# Altium integrated library CustomComponentsLibrary.IntLib: 15 symbols
Pins are listed as number, name and electrical type; pins without a type are passive.

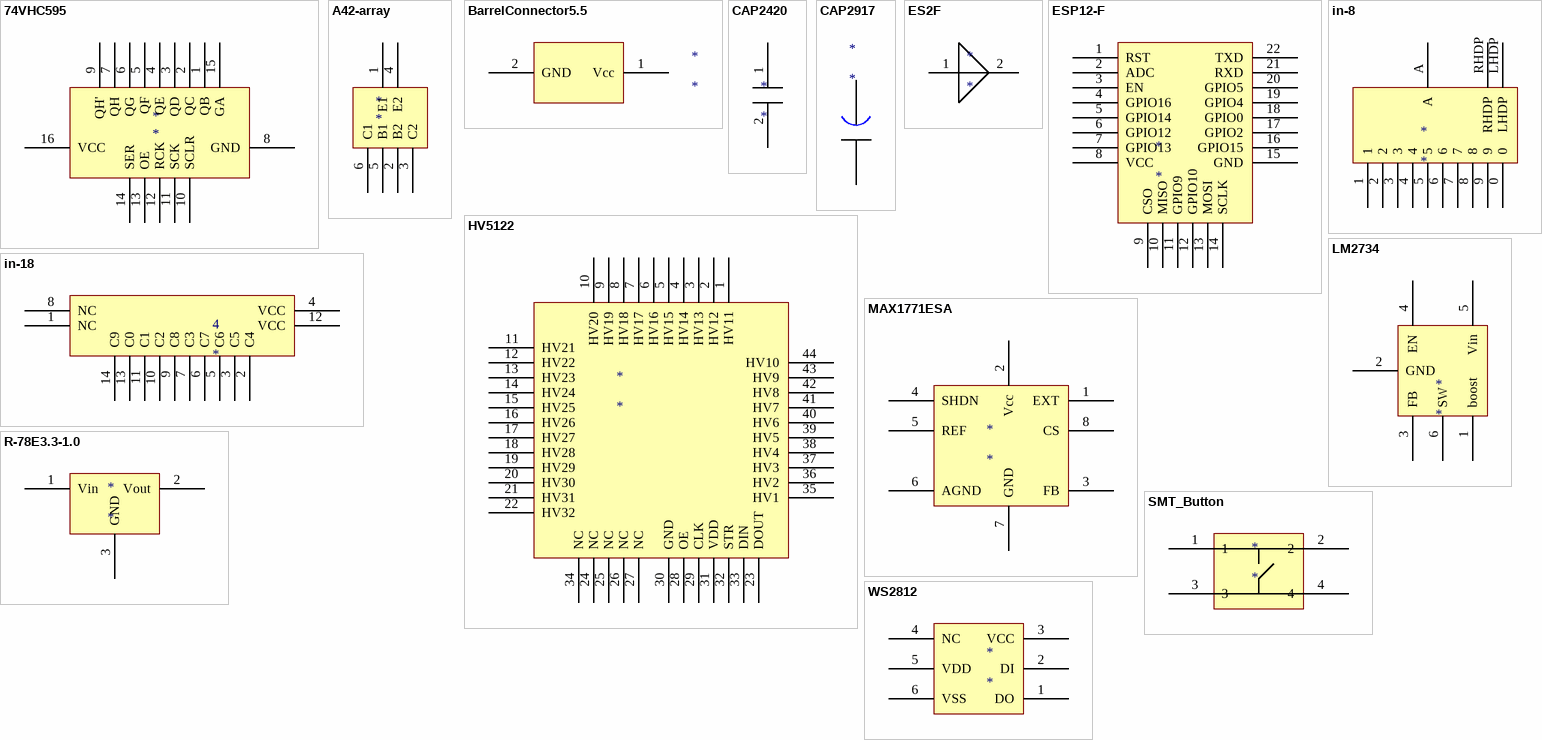
[diagram p0: symbols 74VHC595 to WS2812]

## 74VHC595
designator *
footprint 74VHC595
pins: 1 QB, 2 QC, 3 QD, 4 QE, 5 QF, 6 QG, 7 QH, 8 GND, 9 QH', 10 SCLR, 11 SCK, 12 RCK, 13 OE, 14 SER, 15 GA, 16 VCC

## A42-array
designator *
footprint SOT457
pins: 1 E1, 2 B2, 3 C2, 4 E2, 5 B1, 6 C1

## BarrelConnector5.5
designator *
footprint BarrelConnector5.5
pins: 1 Vcc, 2 GND

## CAP2420
designator *
footprint Cap2420
pins: 1, 2

## CAP2917
designator *
footprint Diode2917
pins: 1, 2

## ES2F
designator *
footprint DO-214AA
pins: 1, 2

## ESP12-F
designator *
footprint ESP12-F
pins: 1 RST, 2 ADC, 3 EN, 4 GPIO16, 5 GPIO14, 6 GPIO12, 7 GPIO13, 8 VCC, 9 CSO, 10 MISO, 11 GPIO9, 12 GPIO10, 13 MOSI, 14 SCLK, 15 GND, 16 GPIO15, 17 GPIO2, 18 GPIO0, 19 GPIO4, 20 GPIO5, 21 RXD, 22 TXD

## HV5122
designator *
footprint 44PQFP
pins: 1 HV11, 2 HV12, 3 HV13, 4 HV14, 5 HV15, 6 HV16, 7 HV17, 8 HV18, 9 HV19, 10 HV20, 11 HV21, 12 HV22, 13 HV23, 14 HV24, 15 HV25, 16 HV26, 17 HV27, 18 HV28, 19 HV29, 20 HV30, 21 HV31, 22 HV32, 23 DOUT, 24 NC, 25 NC, 26 NC, 27 NC, 28 OE, 29 CLK, 30 GND, 31 VDD, 32 STR, 33 DIN, 34 NC, 35 HV1, 36 HV2, 37 HV3, 38 HV4, 39 HV5, 40 HV6, 41 HV7, 42 HV8, 43 HV9, 44 HV10

## in-8
designator *
footprint in-14
pins: 0, 1, 2, 3, 4, 5, 6, 7, 8, 9, A, LHDP, RHDP

## in-18
designator 4
footprint in-18
pins: 1 NC, 2 C4, 3 C5, 4 VCC, 5 C6, 6 C7, 7 C3, 8 NC, 9 C8, 10 C2, 11 C1, 12 VCC, 13 C0, 14 C9

## LM2734
designator *
footprint LM2734
pins: 1 boost, 2 GND, 3 FB, 4 EN, 5 Vin, 6 SW

## MAX1771ESA
designator *
footprint SOIC-8(1.27mm)
pins: 1 EXT, 2 Vcc, 3 FB, 4 SHDN, 5 REF, 6 AGND, 7 GND, 8 CS

## R-78E3.3-1.0
designator *
footprint R-78E3.3-1.0
pins: 1 Vin, 2 Vout, 3 GND

## SMT_Button
designator *
footprint SMT_Button
pins: 1, 2, 3, 4

## WS2812
designator *
footprint WS2812
pins: 1 DO, 2 DI, 3 VCC, 4 NC, 5 VDD, 6 VSS